# Altium footprint library Components - 16.03.23 - 23.49.PcbLib: 1 footprints
Each footprint in its own frame and in the unit in brackets; x right, y up, seen from the top. Pads: shape width x height; smd on the part's side, far side on the other; paste and mask are expansions set on the pad; w line width, h text height; cw(c..) or ccw(c..) is an arc to the next point about the centre after c.
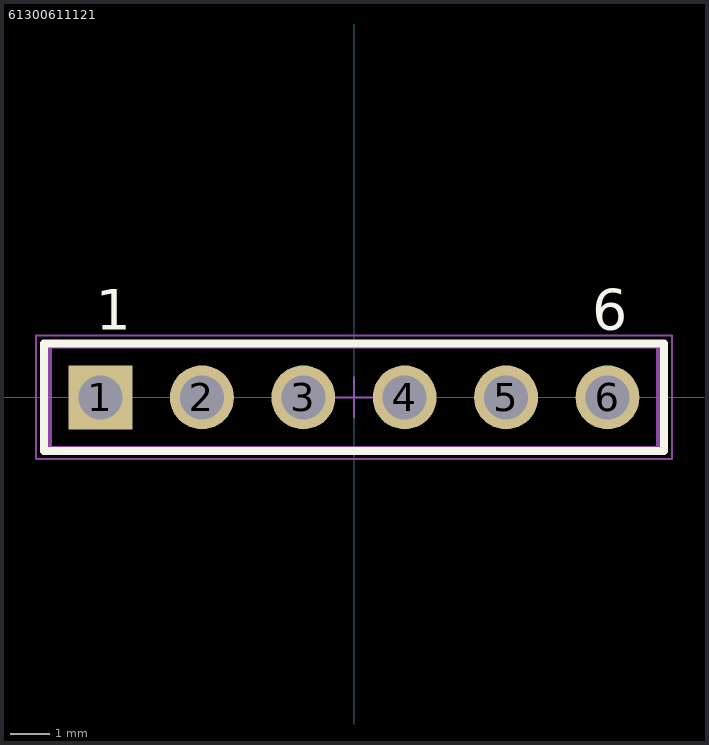
[diagram p0: the footprint, top view; thin cyan lines are the x and y axes]

## 61300611121 [mm] "Pin Header, pitch 2.54 mm, THT, Vertical, single row, 6p"
height 8.54
pads (6):
  rect 1.6x1.6 hole 1.1: 1(-6.35,0)
  round 1.6 hole 1.1: 2(-3.81,0) 3(-1.27,0) 4(1.27,0) 5(3.81,0) 6(6.35,0)
Top Overlay:
  lines w0.2: -7.77,-1.345 7.77,-1.345 7.77,1.345 -7.77,1.345 -7.77,-1.345
  text "1" at -6.47,1.7 h1.02
  text "6" at 5.97,1.7 h1.02
Mechanical 13:
  lines w0.1: -7.62,-1.27 -7.62,1.27 7.62,1.27 7.62,-1.27 -7.62,-1.27
Mechanical 15:
  lines w0.05: -0.5,0 0.5,0 ; 0,-0.5 0,0.5 ; -7.97,-1.545 -7.97,1.545 7.97,1.545 7.97,-1.545 -7.97,-1.545
3D body "61300611121.stp": height 8.57, standoff -2.97, extent -7.62,-1.27 7.62,1.27